# EAGLE library part MC9S08GT*A-44 (library freescale)
HCS08 Microcontroller Source: http://www.freescale.com/files/microcontrollers/doc/data_sheet/MC9S08GT16A.pdf
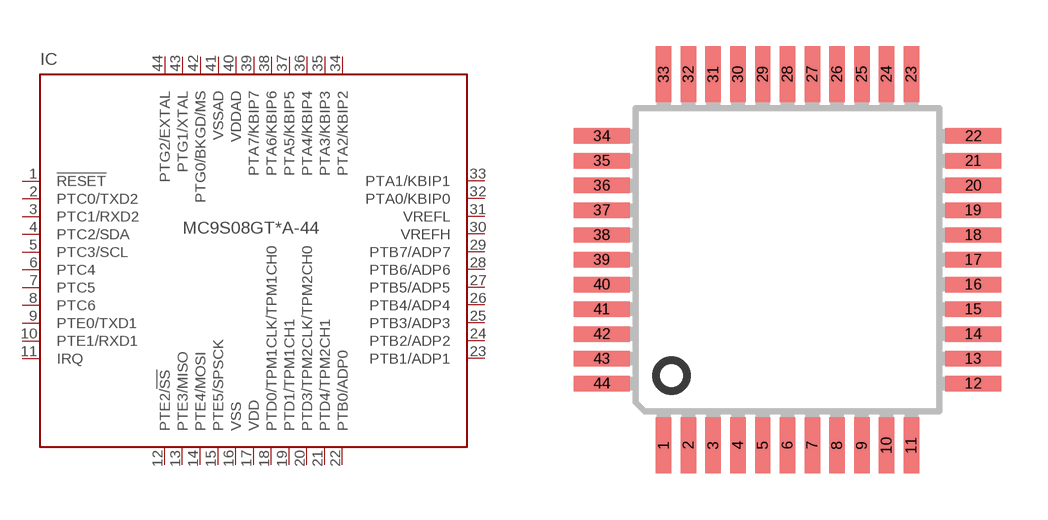
[diagram p10: symbol with the pads of QFP44; footprint QFP44]

Designator prefix IC

## MC9S08GT8A-44 (MF: MOTOROLA; MPN: MC9S08GT8AMFBE; OC_FARNELL: 1294361; OC_NEWARK: 01M5872), MC9S08GT16A-44 (MF: MOTOROLA; MPN: MC9S08GT16ACFBE; OC_FARNELL: 1579706; OC_NEWARK: 01M5859)  [QFP44]
1  !RESET  in
2  PTC0/TXD2
3  PTC1/RXD2
4  PTC2/SDA
5  PTC3/SCL
6  PTC4
7  PTC5
8  PTC6
9  PTE0/TXD1
10  PTE1/RXD1
11  IRQ
12  PTE2/!SS
13  PTE3/MISO
14  PTE4/MOSI
15  PTE5/SPSCK
16  VSS  pwr
17  VDD  pwr
18  PTD0/TPM1CLK/TPM1CH0
19  PTD1/TPM1CH1
20  PTD3/TPM2CLK/TPM2CH0
21  PTD4/TPM2CH1
22  PTB0/ADP0
23  PTB1/ADP1
24  PTB2/ADP2
25  PTB3/ADP3
26  PTB4/ADP4
27  PTB5/ADP5
28  PTB6/ADP6
29  PTB7/ADP7
30  VREFH
31  VREFL
32  PTA0/KBIP0
33  PTA1/KBIP1
34  PTA2/KBIP2
35  PTA3/KBIP3
36  PTA4/KBIP4
37  PTA5/KBIP5
38  PTA6/KBIP6
39  PTA7/KBIP7
40  VDDAD  pwr
41  VSSAD  pwr
42  PTG0/BKGD/MS
43  PTG1/XTAL
44  PTG2/EXTAL

## Footprint QFP44 (pad centres in mm)
44-Pin QFP (Case #824A) Source: http://www.freescale.com/files/microcontrollers/doc/data_sheet/MC68HC908AP64.pdf
smd 0.5 x 1.8: 1 -4,-6; 2 -3.2,-6; 3 -2.4,-6; 4 -1.6,-6; 5 -0.8,-6; 6 0,-6; 7 0.8,-6; 8 1.6,-6; 9 2.4,-6; 10 3.2,-6; 11 4,-6; 23 4,6; 24 3.2,6; 25 2.4,6; 26 1.6,6; 27 0.8,6; 28 0,6; 29 -0.8,6; 30 -1.6,6; 31 -2.4,6; 32 -3.2,6; 33 -4,6
smd 1.8 x 0.5: 12 6,-4; 13 6,-3.2; 14 6,-2.4; 15 6,-1.6; 16 6,-0.8; 17 6,0; 18 6,0.8; 19 6,1.6; 20 6,2.4; 21 6,3.2; 22 6,4; 34 -6,4; 35 -6,3.2; 36 -6,2.4; 37 -6,1.6; 38 -6,0.8; 39 -6,0; 40 -6,-0.8; 41 -6,-1.6; 42 -6,-2.4; 43 -6,-3.2; 44 -6,-4